# EAGLE library part TPS62177 (library isystems)
Texas Instruments TPS62177 28V, 0.5A Step-Down Converter with Sleep Mode Features DCS-Control™ Topology Input Voltage Range 4.75 to 28V Quiescent Current typ. 4.8μA (Sleep Mode) 100% Duty Cycle Mode Active Output Discharge Power Good Output Output Current of 500mA Output Voltage 3.3V Fixed Switching Frequency of Typically 1MHz Seamless Power Save Mode Transition Undervoltage Lockout Short Circuit Protection Over Temperature Protection Datasheet: http://www.ti.com/lit/ds/symlink/tps62177.pdf
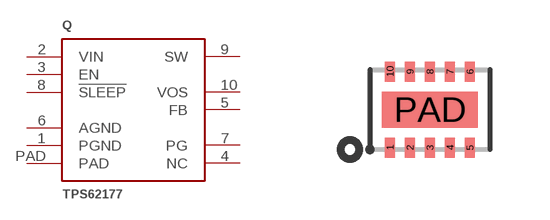
[diagram p45: symbol with the pads of WSON-10-PAD; footprint WSON-10-PAD]

Designator prefix Q

## TPS62177  [WSON-10-PAD]
1  PGND  pwr
2  VIN  pwr
3  EN  in
4  NC
5  FB  in
6  AGND  pwr
7  PG  oc
8  !SLEEP  in
9  SW  out
10  VOS  in
PAD  PAD  pwr

## Footprint WSON-10-PAD (pad centres in mm)
smd 0.25 x 0.5: 1 -1,-0.95; 2 -0.5,-0.95; 3 0,-0.95; 4 0.5,-0.95; 5 1,-0.95; 6 1,0.95; 7 0.5,0.95; 8 0,0.95; 9 -0.5,0.95; 10 -1,0.95
smd 2.4 x 0.9: PAD 0,0